# Altium footprint library BasicLib.PcbLib: 24 footprints (part 2 of 2)
Each footprint in its own frame and in the unit in brackets; x right, y up, seen from the top. Pads: shape width x height; smd on the part's side, far side on the other; paste and mask are expansions set on the pad; w line width, h text height; cw(c..) or ccw(c..) is an arc to the next point about the centre after c.
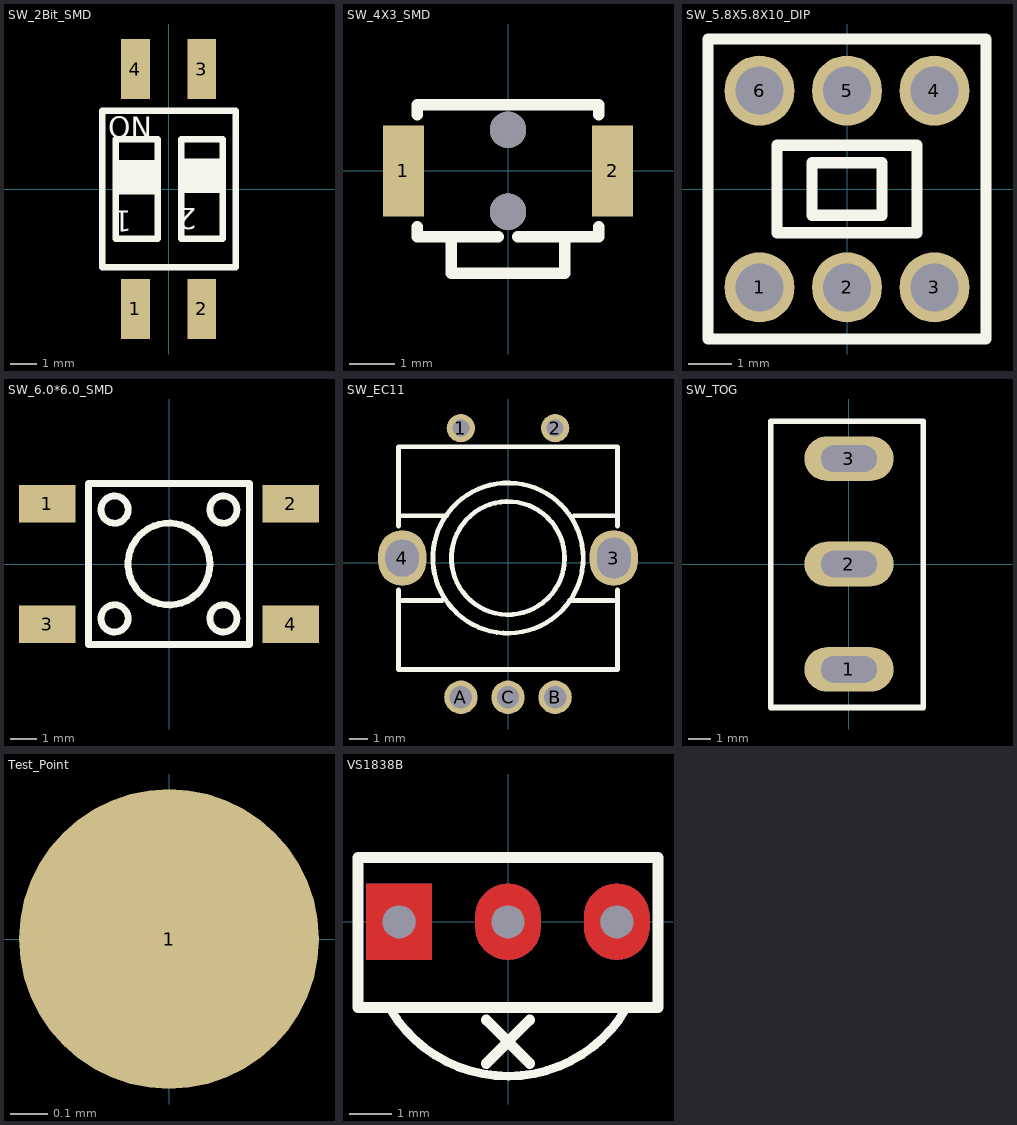
[diagram p1: the footprints below, top view; thin cyan lines are the x and y axes]

## SW_2Bit_SMD [mm]
pads (4):
  rect 1.1x2.3 smd: 1(-1.27,-4.6) 2(1.27,-4.6) 3(1.27,4.6) 4(-1.27,4.6)
Top Overlay:
  region: 0.58,1.15 1.98,1.15 1.98,-0.15 0.58,-0.15
  region: -1.92,1.1 -0.52,1.1 -0.52,-0.2 -1.92,-0.2
  lines w0.254: 2.54,-3 -2.54,-3 -2.54,3 2.57,3 2.57,-3 ; -2.02,-1.9 -2.02,1.9 -0.42,1.9 -0.42,-1.9 -2.02,-1.9 ; 0.48,-1.9 0.48,1.9 2.08,1.9 2.08,-1.9 0.48,-1.9
  text "ON" at -2.319,1.964 h0.8
  text "2" at 1.081,-0.735 h0.8
  text "1" at -1.419,-0.836 h0.8

## SW_4X3_SMD [mm]
pads (4):
  rect 0.9x2 smd: 1(-2.3,0) 2(2.3,0)
  round 0.8 hole 0.8 unplated: ""(0,-0.9) ""(0,0.9)
Top Overlay:
  lines w0.254: -2,-1.231 -2,-1.45 -0.217,-1.45 ; -2,1.231 -2,1.45 2,1.45 2,1.231 ; -1.25,-1.45 -1.25,-2.25 1.25,-2.25 1.25,-1.45 ; 0.217,-1.45 2,-1.45 2,-1.231

## SW_5.8X5.8X10_DIP [mm]
pads (6):
  round 1.6 hole 1.1: 1(-2,-2.25) 2(0,-2.25) 3(2,-2.25) 4(2,2.25) 5(0,2.25) 6(-2,2.25)
Top Overlay:
  lines w0.254: -3.175,-3.429 -3.175,3.429 3.175,3.429 3.175,-3.429 -3.175,-3.429 ; -1.6,-1 -1.6,1 1.6,1 1.6,-1 -1.6,-1 ; -0.8,-0.6 -0.8,0.4 -0.8,0.6 0.8,0.6 0.8,-0.6 -0.8,-0.6

## SW_6.0*6.0_SMD [mm]
pads (4):
  rect 2.1x1.4 smd: 1(-4.55,2.25) 2(4.55,2.25) 3(-4.55,-2.25) 4(4.55,-2.25)
Top Overlay:
  circle w0.254: c0,0 r1.529
  circle w0.254: c2.032,-2.032 r0.508
  circle w0.254: c-2.032,-2.032 r0.508
  circle w0.254: c2.032,2.032 r0.508
  circle w0.254: c-2.03,2.03 r0.508
  lines w0.254: -3,-3 3,-3 3,3 -3,3 -3,-3

## SW_EC11 [mm]
pads (7):
  round 1.524 hole 0.914: 1(-2.54,7.25) 2(2.54,7.25)
  oval 2.6x3 hole 1.8 slot 2.2 at 90 deg: 3(5.7,0.25)
  oval 2.6x3 hole 1.8 slot 2 at 90 deg: 4(-5.7,0.25)
  round 1.8 hole 1.2: A(-2.54,-7.25) B(2.54,-7.25) C(0,-7.25)
Top Overlay:
  circle w0.254: c0,0.25 r4.05
  circle w0.254: c0,0.25 r3.048
  lines w0.254: -5.9,-1.468 -5.9,-5.75 5.9,-5.75 5.9,-1.468 ; -5.9,1.968 -5.9,6.25 5.9,6.25 5.9,1.968 ; -5.842,-2.036 -3.556,-2.036 ; -5.842,2.536 -3.302,2.536 ; 3.302,-2.036 5.842,-2.036 ; 3.556,2.536 5.842,2.536

## SW_TOG [mm]
height 2.38
pads (3):
  oval 4x2 hole 1.2 slot 2.5 at 0 deg: 1(0,-4.724) 2(0,0) 3(0,4.724)
Top Overlay:
  lines w0.254: -3.504,-6.433 -3.504,6.394 3.329,6.394 3.329,-6.433 -3.504,-6.433

## Test_Point [mm]
pads (1):
  round 0.8 smd: 1(0,0)

## VS1838B [mil]
pads (3):
  round 0 hole 30 slot 30.2 at 0 deg: 1(-100,0) 2(0,0) 3(100,0)
Top Layer:
  region: 130,-5 129.76,-8.76 129.06,-12.46 127.89,-16.04 126.29,-19.45 124.27,-22.63 121.87,-25.54 119.12,-28.12 116.07,-30.33 112.77,-32.14 109.27,-33.53 105.62,-34.47 101.88,-34.94 98.12,-34.94 94.38,-34.47 90.73,-33.53 87.23,-32.14 83.93,-30.33 80.88,-28.12 78.13,-25.54 75.73,-22.63 73.71,-19.45 72.11,-16.04 70.94,-12.46 70.24,-8.76 70,-5 70,5 70.24,8.76 70.94,12.46 72.11,16.04 73.71,19.45 75.73,22.63 78.13,25.54 80.88,28.12 83.93,30.33 87.23,32.14 90.73,33.53 94.38,34.47 98.12,34.94 101.88,34.94 105.62,34.47 109.27,33.53 112.77,32.14 116.07,30.33 119.12,28.12 121.87,25.54 124.27,22.63 126.29,19.45 127.89,16.04 129.06,12.46 129.76,8.76 130,5
  region: -130,35 -70,35 -70,-35 -130,-35
  region: 30,-5 29.76,-8.76 29.06,-12.46 27.89,-16.04 26.29,-19.45 24.27,-22.63 21.87,-25.54 19.12,-28.12 16.07,-30.33 12.77,-32.14 9.27,-33.53 5.62,-34.47 1.88,-34.94 -1.88,-34.94 -5.62,-34.47 -9.27,-33.53 -12.77,-32.14 -16.07,-30.33 -19.12,-28.12 -21.87,-25.54 -24.27,-22.63 -26.29,-19.45 -27.89,-16.04 -29.06,-12.46 -29.76,-8.76 -30,-5 -30,5 -29.76,8.76 -29.06,12.46 -27.89,16.04 -26.29,19.45 -24.27,22.63 -21.87,25.54 -19.12,28.12 -16.07,30.33 -12.77,32.14 -9.27,33.53 -5.62,34.47 -1.88,34.94 1.88,34.94 5.62,34.47 9.27,33.53 12.77,32.14 16.07,30.33 19.12,28.12 21.87,25.54 24.27,22.63 26.29,19.45 27.89,16.04 29.06,12.46 29.76,8.76 30,5
Bottom Layer:
  region: 130,-5 129.76,-8.76 129.06,-12.46 127.89,-16.04 126.29,-19.45 124.27,-22.63 121.87,-25.54 119.12,-28.12 116.07,-30.33 112.77,-32.14 109.27,-33.53 105.62,-34.47 101.88,-34.94 98.12,-34.94 94.38,-34.47 90.73,-33.53 87.23,-32.14 83.93,-30.33 80.88,-28.12 78.13,-25.54 75.73,-22.63 73.71,-19.45 72.11,-16.04 70.94,-12.46 70.24,-8.76 70,-5 70,5 70.24,8.76 70.94,12.46 72.11,16.04 73.71,19.45 75.73,22.63 78.13,25.54 80.88,28.12 83.93,30.33 87.23,32.14 90.73,33.53 94.38,34.47 98.12,34.94 101.88,34.94 105.62,34.47 109.27,33.53 112.77,32.14 116.07,30.33 119.12,28.12 121.87,25.54 124.27,22.63 126.29,19.45 127.89,16.04 129.06,12.46 129.76,8.76 130,5
  region: -130,35 -70,35 -70,-35 -130,-35
  region: 30,-5 29.76,-8.76 29.06,-12.46 27.89,-16.04 26.29,-19.45 24.27,-22.63 21.87,-25.54 19.12,-28.12 16.07,-30.33 12.77,-32.14 9.27,-33.53 5.62,-34.47 1.88,-34.94 -1.88,-34.94 -5.62,-34.47 -9.27,-33.53 -12.77,-32.14 -16.07,-30.33 -19.12,-28.12 -21.87,-25.54 -24.27,-22.63 -26.29,-19.45 -27.89,-16.04 -29.06,-12.46 -29.76,-8.76 -30,-5 -30,5 -29.76,8.76 -29.06,12.46 -27.89,16.04 -26.29,19.45 -24.27,22.63 -21.87,25.54 -19.12,28.12 -16.07,30.33 -12.77,32.14 -9.27,33.53 -5.62,34.47 -1.88,34.94 1.88,34.94 5.62,34.47 9.27,33.53 12.77,32.14 16.07,30.33 19.12,28.12 21.87,25.54 24.27,22.63 26.29,19.45 27.89,16.04 29.06,12.46 29.76,8.76 30,5
Top Overlay:
  lines w8: -108.39,-79.97 ccw(c0,-15.76) 108.79,-79.29
  lines w10: -20,-130 20,-90 ; -20,-90 20,-130 ; -137.8,-78.74 -137.8,59.06 137.8,59.06 137.8,-78.74 -137.8,-78.74
Top Paste:
  region: 130,-5 129.76,-8.76 129.06,-12.46 127.89,-16.04 126.29,-19.45 124.27,-22.63 121.87,-25.54 119.12,-28.12 116.07,-30.33 112.77,-32.14 109.27,-33.53 105.62,-34.47 101.88,-34.94 98.12,-34.94 94.38,-34.47 90.73,-33.53 87.23,-32.14 83.93,-30.33 80.88,-28.12 78.13,-25.54 75.73,-22.63 73.71,-19.45 72.11,-16.04 70.94,-12.46 70.24,-8.76 70,-5 70,5 70.24,8.76 70.94,12.46 72.11,16.04 73.71,19.45 75.73,22.63 78.13,25.54 80.88,28.12 83.93,30.33 87.23,32.14 90.73,33.53 94.38,34.47 98.12,34.94 101.88,34.94 105.62,34.47 109.27,33.53 112.77,32.14 116.07,30.33 119.12,28.12 121.87,25.54 124.27,22.63 126.29,19.45 127.89,16.04 129.06,12.46 129.76,8.76 130,5
  region: -130,35 -70,35 -70,-35 -130,-35
  region: 30,-5 29.76,-8.76 29.06,-12.46 27.89,-16.04 26.29,-19.45 24.27,-22.63 21.87,-25.54 19.12,-28.12 16.07,-30.33 12.77,-32.14 9.27,-33.53 5.62,-34.47 1.88,-34.94 -1.88,-34.94 -5.62,-34.47 -9.27,-33.53 -12.77,-32.14 -16.07,-30.33 -19.12,-28.12 -21.87,-25.54 -24.27,-22.63 -26.29,-19.45 -27.89,-16.04 -29.06,-12.46 -29.76,-8.76 -30,-5 -30,5 -29.76,8.76 -29.06,12.46 -27.89,16.04 -26.29,19.45 -24.27,22.63 -21.87,25.54 -19.12,28.12 -16.07,30.33 -12.77,32.14 -9.27,33.53 -5.62,34.47 -1.88,34.94 1.88,34.94 5.62,34.47 9.27,33.53 12.77,32.14 16.07,30.33 19.12,28.12 21.87,25.54 24.27,22.63 26.29,19.45 27.89,16.04 29.06,12.46 29.76,8.76 30,5
Bottom Paste:
  region: 130,-5 129.76,-8.76 129.06,-12.46 127.89,-16.04 126.29,-19.45 124.27,-22.63 121.87,-25.54 119.12,-28.12 116.07,-30.33 112.77,-32.14 109.27,-33.53 105.62,-34.47 101.88,-34.94 98.12,-34.94 94.38,-34.47 90.73,-33.53 87.23,-32.14 83.93,-30.33 80.88,-28.12 78.13,-25.54 75.73,-22.63 73.71,-19.45 72.11,-16.04 70.94,-12.46 70.24,-8.76 70,-5 70,5 70.24,8.76 70.94,12.46 72.11,16.04 73.71,19.45 75.73,22.63 78.13,25.54 80.88,28.12 83.93,30.33 87.23,32.14 90.73,33.53 94.38,34.47 98.12,34.94 101.88,34.94 105.62,34.47 109.27,33.53 112.77,32.14 116.07,30.33 119.12,28.12 121.87,25.54 124.27,22.63 126.29,19.45 127.89,16.04 129.06,12.46 129.76,8.76 130,5
  region: -130,35 -70,35 -70,-35 -130,-35
  region: 30,-5 29.76,-8.76 29.06,-12.46 27.89,-16.04 26.29,-19.45 24.27,-22.63 21.87,-25.54 19.12,-28.12 16.07,-30.33 12.77,-32.14 9.27,-33.53 5.62,-34.47 1.88,-34.94 -1.88,-34.94 -5.62,-34.47 -9.27,-33.53 -12.77,-32.14 -16.07,-30.33 -19.12,-28.12 -21.87,-25.54 -24.27,-22.63 -26.29,-19.45 -27.89,-16.04 -29.06,-12.46 -29.76,-8.76 -30,-5 -30,5 -29.76,8.76 -29.06,12.46 -27.89,16.04 -26.29,19.45 -24.27,22.63 -21.87,25.54 -19.12,28.12 -16.07,30.33 -12.77,32.14 -9.27,33.53 -5.62,34.47 -1.88,34.94 1.88,34.94 5.62,34.47 9.27,33.53 12.77,32.14 16.07,30.33 19.12,28.12 21.87,25.54 24.27,22.63 26.29,19.45 27.89,16.04 29.06,12.46 29.76,8.76 30,5
Top Solder:
  region: 130,-5 129.76,-8.76 129.06,-12.46 127.89,-16.04 126.29,-19.45 124.27,-22.63 121.87,-25.54 119.12,-28.12 116.07,-30.33 112.77,-32.14 109.27,-33.53 105.62,-34.47 101.88,-34.94 98.12,-34.94 94.38,-34.47 90.73,-33.53 87.23,-32.14 83.93,-30.33 80.88,-28.12 78.13,-25.54 75.73,-22.63 73.71,-19.45 72.11,-16.04 70.94,-12.46 70.24,-8.76 70,-5 70,5 70.24,8.76 70.94,12.46 72.11,16.04 73.71,19.45 75.73,22.63 78.13,25.54 80.88,28.12 83.93,30.33 87.23,32.14 90.73,33.53 94.38,34.47 98.12,34.94 101.88,34.94 105.62,34.47 109.27,33.53 112.77,32.14 116.07,30.33 119.12,28.12 121.87,25.54 124.27,22.63 126.29,19.45 127.89,16.04 129.06,12.46 129.76,8.76 130,5
  region: -130,35 -70,35 -70,-35 -130,-35
  region: 30,-5 29.76,-8.76 29.06,-12.46 27.89,-16.04 26.29,-19.45 24.27,-22.63 21.87,-25.54 19.12,-28.12 16.07,-30.33 12.77,-32.14 9.27,-33.53 5.62,-34.47 1.88,-34.94 -1.88,-34.94 -5.62,-34.47 -9.27,-33.53 -12.77,-32.14 -16.07,-30.33 -19.12,-28.12 -21.87,-25.54 -24.27,-22.63 -26.29,-19.45 -27.89,-16.04 -29.06,-12.46 -29.76,-8.76 -30,-5 -30,5 -29.76,8.76 -29.06,12.46 -27.89,16.04 -26.29,19.45 -24.27,22.63 -21.87,25.54 -19.12,28.12 -16.07,30.33 -12.77,32.14 -9.27,33.53 -5.62,34.47 -1.88,34.94 1.88,34.94 5.62,34.47 9.27,33.53 12.77,32.14 16.07,30.33 19.12,28.12 21.87,25.54 24.27,22.63 26.29,19.45 27.89,16.04 29.06,12.46 29.76,8.76 30,5
Bottom Solder:
  region: 130,-5 129.76,-8.76 129.06,-12.46 127.89,-16.04 126.29,-19.45 124.27,-22.63 121.87,-25.54 119.12,-28.12 116.07,-30.33 112.77,-32.14 109.27,-33.53 105.62,-34.47 101.88,-34.94 98.12,-34.94 94.38,-34.47 90.73,-33.53 87.23,-32.14 83.93,-30.33 80.88,-28.12 78.13,-25.54 75.73,-22.63 73.71,-19.45 72.11,-16.04 70.94,-12.46 70.24,-8.76 70,-5 70,5 70.24,8.76 70.94,12.46 72.11,16.04 73.71,19.45 75.73,22.63 78.13,25.54 80.88,28.12 83.93,30.33 87.23,32.14 90.73,33.53 94.38,34.47 98.12,34.94 101.88,34.94 105.62,34.47 109.27,33.53 112.77,32.14 116.07,30.33 119.12,28.12 121.87,25.54 124.27,22.63 126.29,19.45 127.89,16.04 129.06,12.46 129.76,8.76 130,5
  region: -130,35 -70,35 -70,-35 -130,-35
  region: 30,-5 29.76,-8.76 29.06,-12.46 27.89,-16.04 26.29,-19.45 24.27,-22.63 21.87,-25.54 19.12,-28.12 16.07,-30.33 12.77,-32.14 9.27,-33.53 5.62,-34.47 1.88,-34.94 -1.88,-34.94 -5.62,-34.47 -9.27,-33.53 -12.77,-32.14 -16.07,-30.33 -19.12,-28.12 -21.87,-25.54 -24.27,-22.63 -26.29,-19.45 -27.89,-16.04 -29.06,-12.46 -29.76,-8.76 -30,-5 -30,5 -29.76,8.76 -29.06,12.46 -27.89,16.04 -26.29,19.45 -24.27,22.63 -21.87,25.54 -19.12,28.12 -16.07,30.33 -12.77,32.14 -9.27,33.53 -5.62,34.47 -1.88,34.94 1.88,34.94 5.62,34.47 9.27,33.53 12.77,32.14 16.07,30.33 19.12,28.12 21.87,25.54 24.27,22.63 26.29,19.45 27.89,16.04 29.06,12.46 29.76,8.76 30,5